# Altium schematic symbol library CustomParts.SchLib: 41 symbols
Pins are listed as number, name and electrical type; pins without a type are passive.

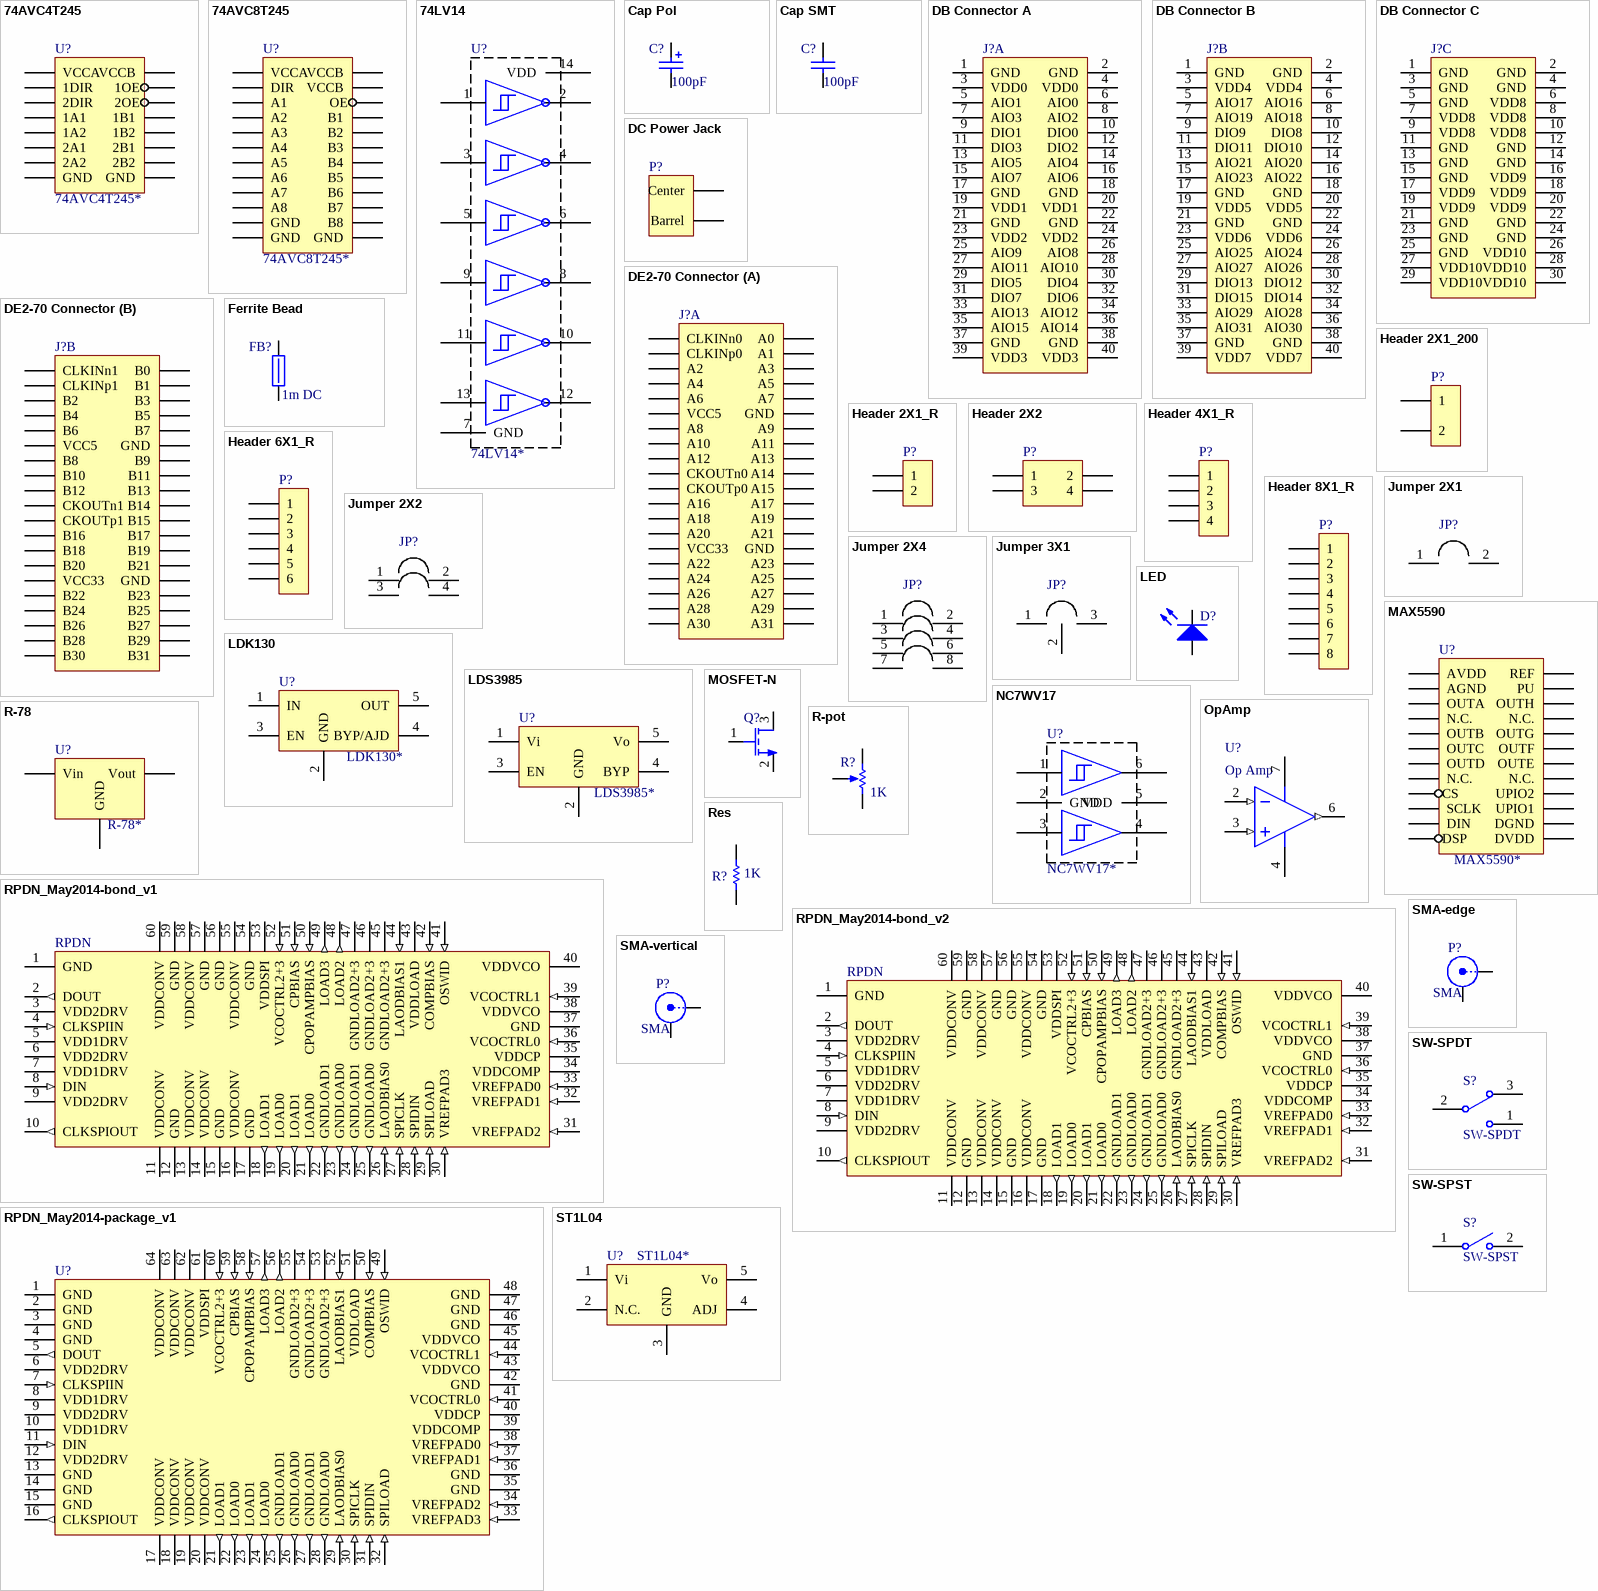
[diagram p0: symbols 74AVC4T245 to SW-SPST]

## 74AVC4T245
designator U?, comment 74AVC4T245*
NXP Semiconductor 4-bit bidirectional level shifter
footprint 74AVC4T245PW (ALtium Generated 16-TSSOP (4.40mm Width))
pins: 1 VCCA (power), 2 1DIR (power), 3 2DIR (power), 4 1A1 (power), 5 1A2 (power), 6 2A1 (power), 7 2A2 (power), 8 GND (power), 9 GND (power), 10 2B2 (power), 11 2B1 (power), 12 1B2 (power), 13 1B1 (power), 14 2OE (power), 15 1OE (power), 16 VCCB

## 74AVC8T245
designator U?, comment 74AVC8T245*
NXP Semiconductor 8-bit bidirectional level shifter
footprint 74AVC8T245PW (ALtium Generated 24-TSSOP (4.40mm Width))
pins: 1 VCCA (power), 2 DIR (power), 3 A1 (power), 4 A2 (power), 5 A3 (power), 6 A4 (power), 7 A5 (power), 8 A6 (power), 9 A7 (power), 10 A8 (power), 11 GND (power), 12 GND (power), 13 GND (power), 14 B8 (power), 15 B7 (power), 16 B6 (power), 17 B5 (power), 18 B4 (power), 19 B3 (power), 20 B2 (power), 21 B1 (power), 22 OE (power), 23 VCCB (power), 24 VCCB

## 74LV14
designator U?, comment 74LV14*
NXP Semiconductors Hex Schmitt Trigger
footprint 74LV14PW (ALtium Generated 14-TSSOP (4.40mm Width))
pins: 1 A1, 2 Y1n, 3 A2, 4 Y2n, 5 A3, 6 Y3n, 7 GND (power), 8 Y4n, 9 A4, 10 Y5n, 11 A5, 12 Y6n, 13 A6, 14 VDD (power)

## Cap Pol
designator C?  value 100pF  (hidden comment: Cap Pol)
Polarized Capacitor, Through Hole
footprint RAD4mm_P (Radial Capacitor (polarized) 4 mm)
simulation model CAP (Capacitor)
signal-integrity model Cap Pol
footprint RAD8mm_P (Radial Capacitor (polarized) 8 mm)
footprint RAD10mm_P (Radial Capacitor (polarized) 10 mm)
pins: 1, 2
1 alternate drawing of the same symbol

## Cap SMT
designator C?  value 100pF  (hidden comment: Cap SMT)
Non-Polarized Capacitor, Surface Mount
footprint 1608N (0603 (1608 Metric))
simulation model CAP (Capacitor)
signal-integrity model Cap
footprint 2012N (0805 (2012 Metric))
footprint 3216N (1206 (3216 Metric))
pins: 1, 2
1 alternate drawing of the same symbol

## DB Connector A
designator J?A
Daughterboard Connector A
footprint DB Connector A (Daughterboard Connector A)
pins: 1 GND (power), 2 GND, 3 VDD0 (power), 4 VDD0 (power), 5 AIO1 (power), 6 AIO0 (power), 7 AIO3 (power), 8 AIO2 (power), 9 DIO1 (power), 10 DIO0 (power), 11 DIO3 (power), 12 DIO2 (power), 13 AIO5 (power), 14 AIO4 (power), 15 AIO7 (power), 16 AIO6 (power), 17 GND (power), 18 GND (power), 19 VDD1 (power), 20 VDD1 (power), 21 GND (power), 22 GND (power), 23 VDD2 (power), 24 VDD2 (power), 25 AIO9 (power), 26 AIO8 (power), 27 AIO11 (power), 28 AIO10 (power), 29 DIO5 (power), 30 DIO4 (power), 31 DIO7 (power), 32 DIO6 (power), 33 AIO13 (power), 34 AIO12 (power), 35 AIO15 (power), 36 AIO14 (power), 37 GND (power), 38 GND (power), 39 VDD3 (power), 40 VDD3 (power)

## DB Connector B
designator J?B
Daughterboard Connector B
footprint DB Connector B (DE2-70 Expansion Header (1/2); 800 mill between pin 1s)
pins: 1 GND (power), 2 GND, 3 VDD4 (power), 4 VDD4 (power), 5 AIO17 (power), 6 AIO16 (power), 7 AIO19 (power), 8 AIO18 (power), 9 DIO9 (power), 10 DIO8 (power), 11 DIO11 (power), 12 DIO10 (power), 13 AIO21 (power), 14 AIO20 (power), 15 AIO23 (power), 16 AIO22 (power), 17 GND (power), 18 GND (power), 19 VDD5 (power), 20 VDD5 (power), 21 GND (power), 22 GND (power), 23 VDD6 (power), 24 VDD6 (power), 25 AIO25 (power), 26 AIO24 (power), 27 AIO27 (power), 28 AIO26 (power), 29 DIO13 (power), 30 DIO12 (power), 31 DIO15 (power), 32 DIO14 (power), 33 AIO29 (power), 34 AIO28 (power), 35 AIO31 (power), 36 AIO30 (power), 37 GND (power), 38 GND (power), 39 VDD7 (power), 40 VDD7 (power)

## DB Connector C
designator J?C
Daughterboard Connector C
footprint DB Connector C (DE2-70 Expansion Header (1/2); 800 mill between pin 1s)
pins: 1 GND (power), 2 GND, 3 GND (power), 4 GND (power), 5 GND (power), 6 VDD8 (power), 7 VDD8 (power), 8 VDD8 (power), 9 VDD8 (power), 10 VDD8 (power), 11 GND (power), 12 GND (power), 13 GND (power), 14 GND (power), 15 GND (power), 16 VDD9 (power), 17 VDD9 (power), 18 VDD9 (power), 19 VDD9 (power), 20 VDD9 (power), 21 GND (power), 22 GND (power), 23 GND (power), 24 GND (power), 25 GND (power), 26 VDD10 (power), 27 VDD10 (power), 28 VDD10 (power), 29 VDD10 (power), 30 VDD10 (power)

## DC Power Jack
designator P?
DC Power Jack
footprint BARREL-2.1x5.5 (Barrel Power Connector Male (2.1mm ID, 5.5mm OD))
pins: 1 Center, 2 Barrel

## DE2-70 Connector
designator J?
DE2-70 Connector (GPIO0/1)
footprint DE2-70 Connector
part A pins: 1 CLKINn0 (power), 2 A0, 3 CLKINp0 (power), 4 A1 (power), 5 A2 (power), 6 A3 (power), 7 A4 (power), 8 A5 (power), 9 A6 (power), 10 A7 (power), 11 VCC5 (power), 12 GND (power), 13 A8 (power), 14 A9 (power), 15 A10 (power), 16 A11 (power), 17 A12 (power), 18 A13 (power), 19 CKOUTn0 (power), 20 A14 (power), 21 CKOUTp0 (power), 22 A15 (power), 23 A16 (power), 24 A17 (power), 25 A18 (power), 26 A19 (power), 27 A20 (power), 28 A21 (power), 29 VCC33 (power), 30 GND (power), 31 A22 (power), 32 A23 (power), 33 A24 (power), 34 A25 (power), 35 A26 (power), 36 A27 (power), 37 A28 (power), 38 A29 (power), 39 A30 (power), 40 A31 (power)
part B pins: 41 CLKINn1 (power), 42 B0, 43 CLKINp1 (power), 44 B1 (power), 45 B2 (power), 46 B3 (power), 47 B4 (power), 48 B5 (power), 49 B6 (power), 50 B7 (power), 51 VCC5 (power), 52 GND (power), 53 B8 (power), 54 B9 (power), 55 B10 (power), 56 B11 (power), 57 B12 (power), 58 B13 (power), 59 CKOUTn1 (power), 60 B14 (power), 61 CKOUTp1 (power), 62 B15 (power), 63 B16 (power), 64 B17 (power), 65 B18 (power), 66 B19 (power), 67 B20 (power), 68 B21 (power), 69 VCC33 (power), 70 GND (power), 71 B22 (power), 72 B23 (power), 73 B24 (power), 74 B25 (power), 75 B26 (power), 76 B27 (power), 77 B28 (power), 78 B29 (power), 79 B30 (power), 80 B31 (power)

## Ferrite Bead
designator FB?  value 1m DC  (hidden comment: Ferrite Bead)
Ferrite Bead, Surface Mount; Value: 1000@100MHz
footprint 1608N (0603 (1608 Metric))
footprint 2012N (0805 (2012 Metric))
footprint 3216N (1206 (3216 Metric))
pins: 1, 2
1 alternate drawing of the same symbol

## Header 2X1_200
designator P?  (value not drawn)
Header, 2-Pin, 200 mil Pitch
footprint HDR1X2_200 (Header, 2-Pin, 200 mil Pitch)
pins: 1, 2

## Header 2X1_R
designator P?  (value not drawn)
Power Header, 2-Pin, Right Angle
footprint HDR1X2_R (Power Header; 2 Position; Right Angle)
pins: 1, 2

## Header 2X2
designator P?  (value not drawn)
Header, 2x2-Pin
footprint HDR2X2 (Header, 2x2-Pin, 100 mil Pitch)
pins: 1, 2, 3, 4

## Header 4X1_R
designator P?  (value not drawn)
Power Header, 4-Pin, Right Angle
footprint HDR1X4_R (Power Header; 4 Position; Right Angle)
pins: 1, 2, 3, 4

## Header 6X1_R
designator P?  (value not drawn)
Power Header, 6-Pin, Right Angle
footprint HDR1X6_R (Power Header; 6 Position; Right Angle)
pins: 1, 2, 3, 4, 5, 6

## Header 8X1_R
designator P?  (value not drawn)
Power Header, 8-Pin, Right Angle
footprint HDR1X8_R (Power Header; 8 Position; Right Angle)
pins: 1, 2, 3, 4, 5, 6, 7, 8

## Jumper 2X1
designator JP?  (value not drawn)
Jumper, 2-Position
footprint JMPR2X1 (Jumper, 2-Position)
pins: 1, 2

## Jumper 2X2
designator JP?  (value not drawn)
Jumper, Two of 2-Position
footprint JMPR2X2 (Footprint not found)
pins: 1, 2, 3, 4

## Jumper 2X4
designator JP?  (value not drawn)
Jumper, Four of 2-Position
footprint JMPR2X4 (Jumper, Four of 2-Position)
pins: 1, 2, 3, 4, 5, 6, 7, 8

## Jumper 3X1
designator JP?  (value not drawn)
Jumper, 3-Position
footprint JMPR3X1 (Jumper, 3-Position)
pins: 1, 2, 3

## LDK130
designator U?, comment LDK130*
STMicroelectronics 300mA LDOs
footprint LDK130M (Altium Generated SOT-23-5L)
pins: 1 IN (power), 2 GND (power), 3 EN (power), 4 BYP/AJD (power), 5 OUT (power)

## LDS3985
designator U?, comment LDS3985*
STMicroelectronics 300mA Low Noise LDOs
footprint LDS3985M (Altium Generated SOT-23-5)
pins: 1 Vi (power), 2 GND (power), 3 EN (power), 4 BYP (power), 5 Vo (power)

## LED
designator D?  (value not drawn)
LED, Surface Mount
footprint 1608N (0603 (1608 Metric))
footprint 2012N (0805 (2012 Metric))
footprint 3216N (1206 (3216 Metric))
pins: 1, 2
1 alternate drawing of the same symbol

## MAX5590
designator U?, comment MAX5590*
12-bit, 8-output DAC. Compatible with MAX5592(10), MAX5594(8)
footprint MAX5590 (ALtium Generated 24-TSSOP (4.40mm Width))
pins: 1 AVDD (power), 2 AGND (power), 3 OUTA (power), 4 N.C. (power), 5 OUTB (power), 6 OUTC (power), 7 OUTD (power), 8 N.C. (power), 9 CS (power), 10 SCLK (power), 11 DIN (power), 12 DSP (power), 13 DVDD (power), 14 DGND (power), 15 UPIO1 (power), 16 UPIO2 (power), 17 N.C. (power), 18 OUTE (power), 19 OUTF (power), 20 OUTG (power), 21 N.C. (power), 22 OUTH (power), 23 PU (power), 24 REF

## MOSFET-N
designator Q?, comment NMOS  (value not drawn)
Schematic Terminals: 1-G, 2-S, 3-D
footprint RU1J002YN (MOSFET N-Channel, Logic Level 0.9 V Drive)
pins: 1 G, 2 S, 3 D

## NC7WV17
designator U?, comment NC7WV17*
Fairchild Semiconductor Dual Schmitt Trigger
footprint NC7WV17P6X (Fairchild Semiconductor Dual Schmitt Trigger)
pins: 1 A1, 2 GND (power), 3 A2, 4 Y2, 5 VDD (power), 6 Y1

## OpAmp
designator U?, comment Op Amp
footprint OpAmp
pins: 2 IN- (in), 3 IN+ (in), 4 V- (power), 6 OUT (out), 7 V+ (power)

## R-78
designator U?, comment R-78*
Recom Power R-78 Series Switching Regulator
footprint R-78 (Recom Power 3-SIP R-78 Sries Switching Regulators)
pins: 1 Vin, 2 GND, 3 Vout

## R-pot
designator R?  value 1K  (hidden comment: R-pot)
Surface mount potentiometer
footprint RPOT (5mm x 4.5 mm surface mount potentiometer)
pins: 1 BOT, 2 TAP, 3 TOP

## Res
designator R?  value 1K  (hidden comment: Res)
Resistor
footprint AXIAL-0.3 (Axial Device, Thru-Hole; 2 Leads; 0.3 in Pin Spacing)
simulation model RESISTOR (Resistor)
signal-integrity model Res
footprint 1608N (0603 (1608 Metric))
footprint 2012N (0805 (2012 Metric))
footprint 3216N (1206 (3216 Metric))
pins: 1, 2

## RPDN_May2014-bond_v1
designator RPDN
RPDN test chip from May 2014 tapeout
footprint RPDN_May2014-bond_v1
pins: 1 GND (power), 2 DOUT (out), 3 VDD2DRV (power), 4 CLKSPIIN (in), 5 VDD1DRV (power), 6 VDD2DRV (power), 7 VDD1DRV (power), 8 DIN (in), 9 VDD2DRV (power), 10 CLKSPIOUT (out), 11 VDDCONV (power), 12 GND (power), 13 VDDCONV (power), 14 VDDCONV (power), 15 GND (power), 16 VDDCONV (power), 17 GND (power), 18 LOAD1 (out), 19 LOAD0 (out), 20 LOAD1 (out), 21 LOAD0 (out), 22 GNDLOAD1 (out), 23 GNDLOAD0 (out), 24 GNDLOAD1 (out), 25 GNDLOAD0 (out), 26 LAODBIAS0 (in), 27 SPICLK (in), 28 SPIDIN (in), 29 SPILOAD (in), 30 VREFPAD3 (in), 31 VREFPAD2 (in), 32 VREFPAD1 (in), 33 VREFPAD0 (in), 34 VDDCOMP (power), 35 VDDCP (power), 36 VCOCTRL0 (in), 37 GND (power), 38 VDDVCO (power), 39 VCOCTRL1 (in), 40 VDDVCO (power), 41 OSWID (in), 42 COMPBIAS (in), 43 VDDLOAD (power), 44 LAODBIAS1 (in), 45 GNDLOAD2+3 (power), 46 GNDLOAD2+3 (power), 47 GNDLOAD2+3 (power), 48 LOAD2 (out), 49 LOAD3 (out), 50 CPOPAMPBIAS (in), 51 CPBIAS (in), 52 VCOCTRL2+3 (in), 53 VDDSPI (power), 54 GND (power), 55 VDDCONV (power), 56 GND (power), 57 GND (power), 58 VDDCONV (power), 59 GND (power), 60 VDDCONV (power)

## RPDN_May2014-bond_v2
designator RPDN
RPDN test chip from May 2014 tapeout
footprint RPDN_May2014-bond_v2
pins: 1 GND (power), 2 DOUT (out), 3 VDD2DRV (power), 4 CLKSPIIN (in), 5 VDD1DRV (power), 6 VDD2DRV (power), 7 VDD1DRV (power), 8 DIN (in), 9 VDD2DRV (power), 10 CLKSPIOUT (out), 11 VDDCONV (power), 12 GND (power), 13 VDDCONV (power), 14 VDDCONV (power), 15 GND (power), 16 VDDCONV (power), 17 GND (power), 18 LOAD1 (out), 19 LOAD0 (out), 20 LOAD1 (out), 21 LOAD0 (out), 22 GNDLOAD1 (out), 23 GNDLOAD0 (out), 24 GNDLOAD1 (out), 25 GNDLOAD0 (out), 26 LAODBIAS0 (in), 27 SPICLK (in), 28 SPIDIN (in), 29 SPILOAD (in), 30 VREFPAD3 (in), 31 VREFPAD2 (in), 32 VREFPAD1 (in), 33 VREFPAD0 (in), 34 VDDCOMP (power), 35 VDDCP (power), 36 VCOCTRL0 (in), 37 GND (power), 38 VDDVCO (power), 39 VCOCTRL1 (in), 40 VDDVCO (power), 41 OSWID (in), 42 COMPBIAS (in), 43 VDDLOAD (power), 44 LAODBIAS1 (in), 45 GNDLOAD2+3 (power), 46 GNDLOAD2+3 (power), 47 GNDLOAD2+3 (power), 48 LOAD2 (out), 49 LOAD3 (out), 50 CPOPAMPBIAS (in), 51 CPBIAS (in), 52 VCOCTRL2+3 (in), 53 VDDSPI (power), 54 GND (power), 55 VDDCONV (power), 56 GND (power), 57 GND (power), 58 VDDCONV (power), 59 GND (power), 60 VDDCONV (power)

## RPDN_May2014-package_v1
designator U?
RPDN test chip from May 2014 tapeout
footprint RPDN_May2014-package_v1
pins: 1 GND (power), 2 GND (power), 3 GND (power), 4 GND (power), 5 DOUT (out), 6 VDD2DRV (power), 7 CLKSPIIN (in), 8 VDD1DRV (power), 9 VDD2DRV (power), 10 VDD1DRV (power), 11 DIN (in), 12 VDD2DRV (power), 13 GND (power), 14 GND (power), 15 GND (power), 16 CLKSPIOUT (out), 17 VDDCONV (power), 18 VDDCONV (power), 19 VDDCONV (power), 20 VDDCONV (power), 21 LOAD1 (out), 22 LOAD0 (out), 23 LOAD1 (out), 24 LOAD0 (out), 25 GNDLOAD1 (out), 26 GNDLOAD0 (out), 27 GNDLOAD1 (out), 28 GNDLOAD0 (out), 29 LAODBIAS0 (in), 30 SPICLK (in), 31 SPIDIN (in), 32 SPILOAD (in), 33 VREFPAD3 (in), 34 VREFPAD2 (in), 35 GND (power), 36 GND (power), 37 VREFPAD1 (in), 38 VREFPAD0 (in), 39 VDDCOMP (power), 40 VDDCP (power), 41 VCOCTRL0 (in), 42 GND (power), 43 VDDVCO (power), 44 VCOCTRL1 (in), 45 VDDVCO (power), 46 GND (power), 47 GND (power), 48 GND (power), 49 OSWID (in), 50 COMPBIAS (in), 51 VDDLOAD (power), 52 LAODBIAS1 (in), 53 GNDLOAD2+3 (power), 54 GNDLOAD2+3 (power), 55 GNDLOAD2+3 (power), 56 LOAD2 (out), 57 LOAD3 (out), 58 CPOPAMPBIAS (in), 59 CPBIAS (in), 60 VCOCTRL2+3 (in), 61 VDDSPI (power), 62 VDDCONV (power), 63 VDDCONV (power), 64 VDDCONV (power)

## SMA-edge
designator P?, comment SMA
SMA Edge Connector
footprint SMA-edge
pins: 1 X, 2 Y

## SMA-vertical
designator P?, comment SMA
SMA Vertical Connector
footprint SMA-vertical
pins: 1 X, 2 Y

## ST1L04
designator U?, comment ST1L04*
STMicroelectronics 1 A LDO
footprint ST1L04PT (Altium Footprint Wizzard Generated)
pins: 1 Vi (power), 2 N.C. (power), 3 GND (power), 4 ADJ (power), 5 Vo (power)

## SW-SPDT
designator S?
Single Pole Double Throw Switch
footprint CS12ANW03 (NKK Switches, SPDT Switch)
pins: 1, 2, 3

## SW-SPST
designator S?
Single Pole Single Throw Switch
pins: 1 COMMON, 2 NO

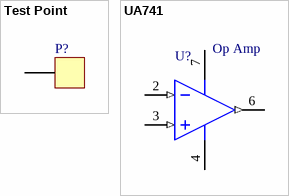
[diagram p1: symbols Test Point to UA741]

## Test Point
designator P?
Test point
footprint Test point
pins: 1 signal (power)

## UA741
designator U?, comment Op Amp
pins: 2 IN- (in), 3 IN+ (in), 4 V- (power), 6 OUT (out), 7 V+ (power)